# EAGLE library part IN-18 (library 0-nixies-russian)
IN-18: large numeric frontview nixie tube
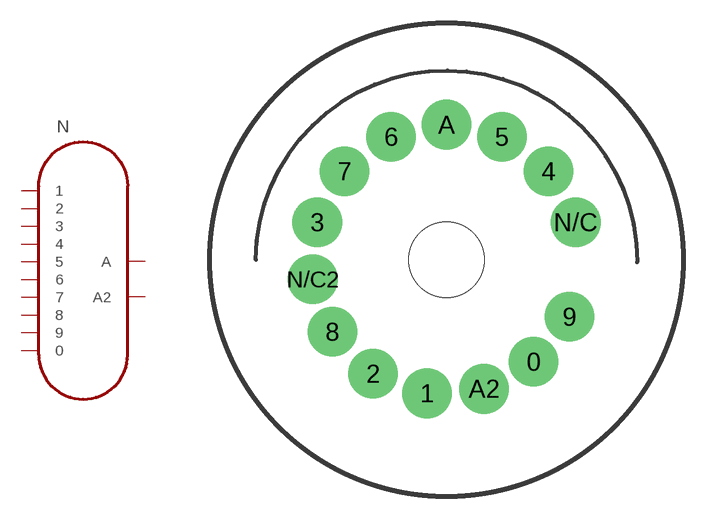
[diagram p5: symbol with the pads of IN-18; footprint IN-18]

Designator prefix N

## IN-18  [IN-18]
0  0
1  1
2  2
3  3
4  4
5  5
6  6
7  7
8  8
9  9
A  A
A2  A2

## Footprint IN-18 (pad centres in mm)
May be used with socket: PL31-P
drill 2.3 pad 3.2 round: 0 5.8,-6.8; 1 -1.3,-8.9; 2 -4.9,-7.6; 3 -8.6,2.5; 4 6.8,5.9; 5 3.7,8.2; 6 -3.7,8.2; 7 -6.8,5.9; 8 -7.6,-4.8; 9 8.2,-3.8; A 0,9; A2 2.5,-8.6; N/C 8.6,2.5; N/C2 -8.9,-1.3
hole 5 at 0,0